# Altium schematic symbol library C0402C101KCGACAUTO.SchLib: 1 symbol
Pins are listed as number, name and electrical type; pins without a type are passive.

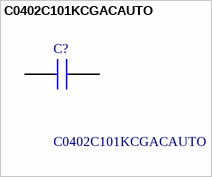
[diagram p0: symbol C0402C101KCGACAUTO]

## C0402C101KCGACAUTO
designator C?
Multilayer Ceramic Capacitors MLCC - SMD/SMT 500V 0.0001uF C0G 0402 10% AEC-Q200; Manufacturer_Name: KEMET; Geometry.Height: 0.55mm; Mouser Part Number: 80-C0402C101KCGAUTO; Mouser Price/Stock: https://www.mouser.co.uk/ProductDetail/KEMET/C0402C101KCGACAUTO?qs=1Kr7Jg1SGW8kQysZZQPmCw%3D%3D; Manufacturer_Part_Number: C0402C101KCGACAUTO; Datasheet Link: *
footprint CAPC1005X55N
pins: 1, 2